# Altium schematic symbol library LCD.SchLib: 1 symbol
Pins are listed as number, name and electrical type; pins without a type are passive.

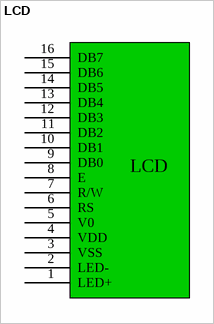
[diagram p0: symbol LCD]

## LCD
designator *  (value not drawn)
pins: 1 LED+, 2 LED-, 3 VSS, 4 VDD, 5 V0, 6 RS, 7 R/W, 8 E, 9 DB0, 10 DB1, 11 DB2, 12 DB3, 13 DB4, 14 DB5, 15 DB6, 16 DB7